# EAGLE library part CP2102_9 (library LIBRARY_embedded_software_systems)
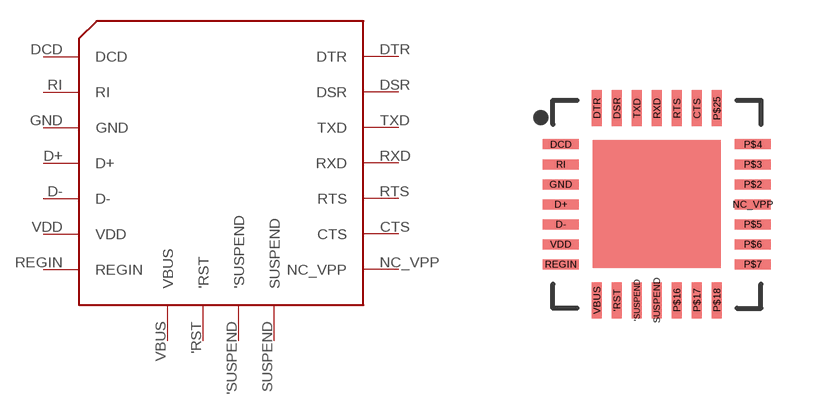
[diagram p0: symbol with the pads of CP2102_9_QFN-28; footprint CP2102_9_QFN-28]

Designator prefix -

## CP2102_9  [CP2102_9_QFN-28]
'RST  'RST
'SUSPEND  'SUSPEND
CTS  CTS
D+  D+
D-  D-
DCD  DCD
DSR  DSR
DTR  DTR
GND  GND
NC_VPP  NC_VPP
REGIN  REGIN
RI  RI
RTS  RTS
RXD  RXD
SUSPEND  SUSPEND
TXD  TXD
VBUS  VBUS
VDD  VDD

## Footprint CP2102_9_QFN-28 (pad centres in mm)
CP2012 USB to Serial Interface
smd 0.25 x 0.9: 'RST -1,-2.4; 'SUSPEND -0.5,-2.4; CTS 1,2.4; DSR -1,2.4; DTR -1.5,2.4; P$16 0.5,-2.4; P$17 1,-2.4; P$18 1.5,-2.4; P$25 1.5,2.4; RTS 0.5,2.4; RXD 0,2.4; SUSPEND 0,-2.4; TXD -0.5,2.4; VBUS -1.5,-2.4
smd 0.9 x 0.25: D+ -2.4,0; D- -2.4,-0.5; DCD -2.4,1.5; GND -2.4,0.5; NC_VPP 2.4,0; P$2 2.4,0.5; P$3 2.4,1; P$4 2.4,1.5; P$5 2.4,-0.5; P$6 2.4,-1; P$7 2.4,-1.5; REGIN -2.4,-1.5; RI -2.4,1; VDD -2.4,-1